# EAGLE library part B12B-XH-A (library jst-xh)
Wire-to-Board 2.5mm pitch top mount connector Source: http://www.jst-mfg.com/product/pdf/jpn/XH.pdf http://www.jst-mfg.com/product/detail.php?series=277
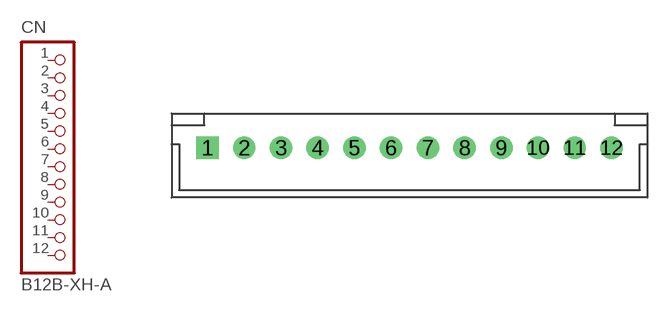
[diagram p6: symbol with the pads of B12B-XH-A; footprint B12B-XH-A]

Designator prefix CN

## B12B-XH-A  [B12B-XH-A]
1  1  pas
2  2  pas
3  3  pas
4  4  pas
5  5  pas
6  6  pas
7  7  pas
8  8  pas
9  9  pas
10  10  pas
11  11  pas
12  12  pas

## Footprint B12B-XH-A (pad centres in mm)
drill 1.016 square: 1 -13.75,0
drill 1.016: 2 -11.25,0; 3 -8.75,0; 4 -6.25,0; 5 -3.75,0; 6 -1.25,0; 7 1.25,0; 8 3.75,0; 9 6.25,0; 10 8.75,0; 11 11.25,0; 12 13.75,0